# EAGLE library part ST-MICROELECTRONICS_NE555 (library ADB-3020-CDV.brd)
General purpose bipolar Timer
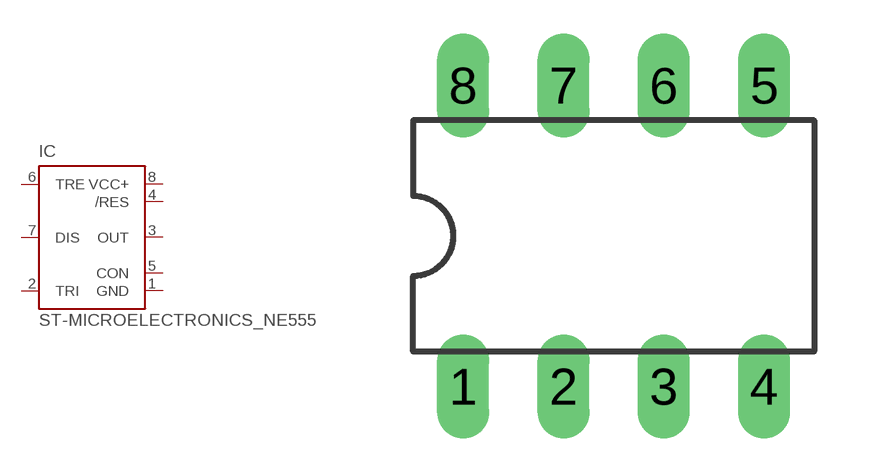
[diagram p2: symbol with the pads of ST-MICROELECTRONICS_DIL-08; footprint ST-MICROELECTRONICS_DIL-08]

Designator prefix IC

## ST-MICROELECTRONICS_NE555 (MF: Arrow Electronics; MPN: NE555N; OC_FARNELL: 1467742; OC_NEWARK: 89K1486)  [ST-MICROELECTRONICS_DIL-08]
1  GND  pwr
2  TRI  in
3  OUT  out
4  /RES  in
5  CON  in
6  TRE  in
7  DIS  in
8  VCC+  pwr

## Footprint ST-MICROELECTRONICS_DIL-08 (pad centres in mm)
Dual In Line Package
drill 0.813 long: 1 -3.81,-3.81; 2 -1.27,-3.81; 3 1.27,-3.81; 4 3.81,-3.81; 5 3.81,3.81; 6 1.27,3.81; 7 -1.27,3.81; 8 -3.81,3.81